# Altium footprint library BQ24075RGTT.PcbLib: 1 footprints
Each footprint in its own frame and in the unit in brackets; x right, y up, seen from the top. Pads: shape width x height; smd on the part's side, far side on the other; paste and mask are expansions set on the pad; w line width, h text height; cw(c..) or ccw(c..) is an arc to the next point about the centre after c.
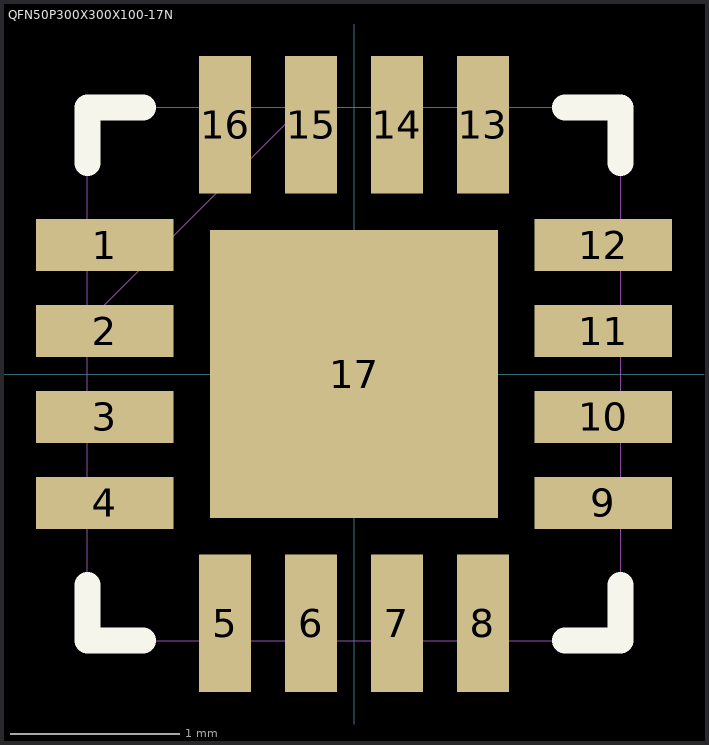
[diagram p0: the footprint, top view; thin cyan lines are the x and y axes]

## QFN50P300X300X100-17N [mil]
pads (17):
  rect 32x12 smd: 1(-58,30) 2(-58,10) 3(-58,-10) 4(-58,-30) 9(58,-30) 10(58,-10) 11(58,10) 12(58,30)
  rect 12x32 smd: 5(-30,-58) 6(-10,-58) 7(10,-58) 8(30,-58) 13(30,58) 14(10,58) 15(-10,58) 16(-30,58)
  rect 67x67 smd: 17(0,0)
Top Overlay:
  lines w6: -62,-49 -62,-62 -49,-62 ; -62,49 -62,62 -49,62 ; 49,-62 62,-62 62,-49 ; 49,62 62,62 62,49
Mechanical 4:
  lines w0: -62,-62 -62,62 ; -62,-62 62,-62 ; -62,-62 -62,62 ; -62,-62 62,-62 ; -62,62 62,62 ; -62,62 62,62 ; 62,-62 62,62 ; 62,-62 62,62 ; -62,-35 -62,-24 -62,-35 ; -62,-16 -62,-4 -62,-16 ; -62,4 -62,16 -62,4 ; -62,12 -12,62 -62,12 ; -62,24 -62,35 -62,24 ; -35,-62 -24,-62 -35,-62 ; -35,62 -24,62 -35,62 ; -16,-62 -4,-62 -16,-62 ; -16,62 -4,62 -16,62 ; 4,-62 16,-62 4,-62 ; 4,62 16,62 4,62 ; 24,-62 35,-62 24,-62 ; 24,62 35,62 24,62 ; 62,-35 62,-24 62,-35 ; 62,-16 62,-4 62,-16 ; 62,4 62,16 62,4 ; 62,24 62,35 62,24